# Altium footprint library sim800L_PcbLib.PcbLib: 1 footprints
Each footprint in its own frame and in the unit in brackets; x right, y up, seen from the top. Pads: shape width x height; smd on the part's side, far side on the other; paste and mask are expansions set on the pad; w line width, h text height; cw(c..) or ccw(c..) is an arc to the next point about the centre after c.
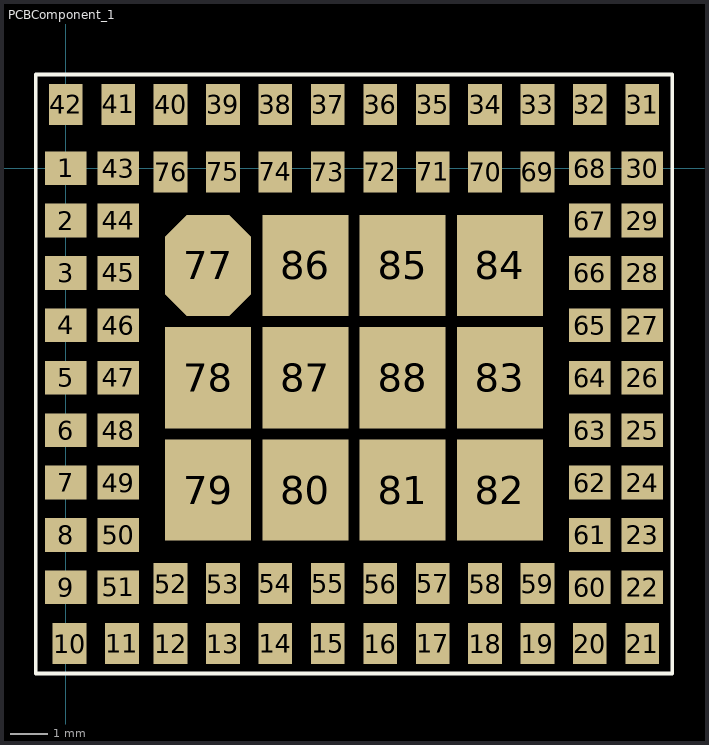
[diagram p0: the footprint, top view; thin cyan lines are the x and y axes]

## PCBComponent_1 [mm]
pads (88):
  rect 1.1x0.9 smd: 1(0,0) 2(0,-1.4) 3(0,-2.8) 4(0,-4.2) 5(0,-5.6) 6(0,-7) 7(0,-8.4) 8(0,-9.8) 9(0,-11.2) 22(15.4,-11.2) 23(15.4,-9.8) 24(15.4,-8.4) 25(15.4,-7) 26(15.4,-5.6) 27(15.4,-4.2) 28(15.4,-2.8) 29(15.4,-1.4) 30(15.4,0) 43(1.4,0) 44(1.4,-1.4) 45(1.4,-2.8) 46(1.4,-4.2) 47(1.4,-5.6) 48(1.4,-7) 49(1.4,-8.4) 50(1.4,-9.8) 51(1.4,-11.2) 60(14,-11.2) 61(14,-9.8) 62(14,-8.4) 63(14,-7) 64(14,-5.6) 65(14,-4.2) 66(14,-2.8) 67(14,-1.4) 68(14,0)
  rect 0.9x1.1 smd: 10(0.1,-12.7) 11(1.5,-12.7) 12(2.8,-12.7) 13(4.2,-12.7) 14(5.6,-12.7) 15(7,-12.7) 16(8.4,-12.7) 17(9.8,-12.7) 18(11.2,-12.7) 19(12.6,-12.7) 20(14,-12.7) 21(15.4,-12.7) 31(15.4,1.7) 32(14,1.7) 33(12.6,1.7) 34(11.2,1.7) 35(9.8,1.7) 36(8.4,1.7) 37(7,1.7) 38(5.6,1.7) 39(4.2,1.7) 40(2.8,1.7) 41(1.4,1.7) 42(0,1.7) 52(2.8,-11.1) 53(4.2,-11.1) 54(5.6,-11.1) 55(7,-11.1) 56(8.4,-11.1) 57(9.8,-11.1) 58(11.2,-11.1) 59(12.6,-11.1) 69(12.6,-0.1) 70(11.2,-0.1) 71(9.8,-0.1) 72(8.4,-0.1) 73(7,-0.1) 74(5.6,-0.1) 75(4.2,-0.1) 76(2.8,-0.1)
  oct 2.3x2.7 smd: 77(3.8,-2.6)
  rect 2.3x2.7 smd: 78(3.8,-5.6) 79(3.8,-8.6) 80(6.4,-8.6) 81(9,-8.6) 82(11.6,-8.6) 83(11.6,-5.6) 84(11.6,-2.6) 85(9,-2.6) 86(6.4,-2.6) 87(6.4,-5.6) 88(9,-5.6)
Top Overlay:
  lines w0.1: -0.8,-13.5 16.2,-13.5 16.2,2.5 -0.8,2.5 -0.8,-13.5